# EAGLE library part ANALOGHEADER (library teamFusion)
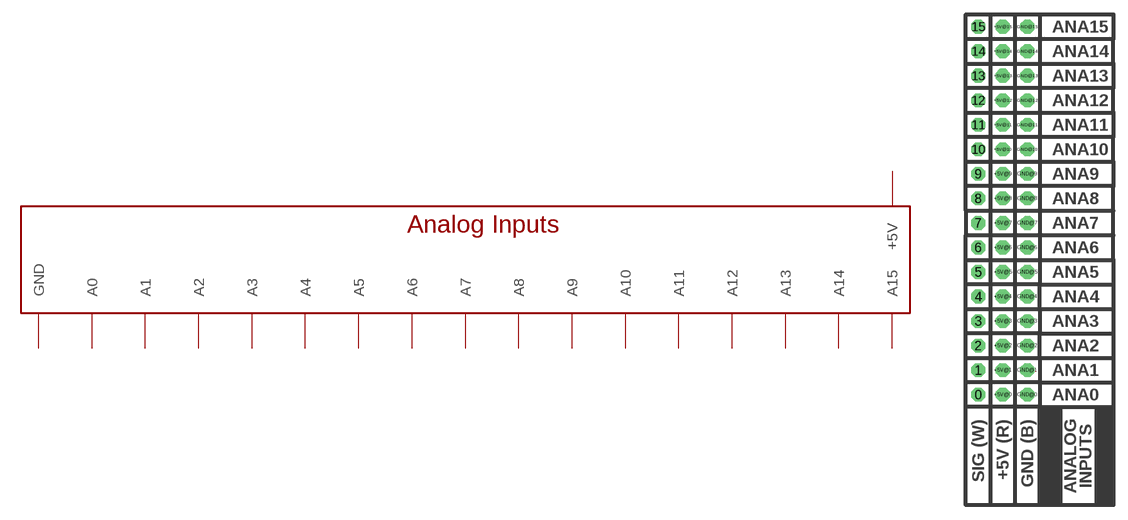
[diagram p1: symbol with the pads of ANALOGHEADER; footprint ANALOGHEADER]

Designator prefix -

## ANALOGHEADER  [ANALOGHEADER]
0  A0
1  A1
2  A2
3  A3
4  A4
5  A5
6  A6
7  A7
8  A8
9  A9
10  A10
11  A11
12  A12
13  A13
14  A14
15  A15
+5V@0  +5V
+5V@1  +5V
+5V@2  +5V
+5V@3  +5V
+5V@4  +5V
+5V@5  +5V
+5V@6  +5V
+5V@7  +5V
+5V@8  +5V
+5V@9  +5V
+5V@10  +5V
+5V@11  +5V
+5V@12  +5V
+5V@13  +5V
+5V@14  +5V
+5V@15  +5V
GND@0  GND
GND@1  GND
GND@2  GND
GND@3  GND
GND@4  GND
GND@5  GND
GND@6  GND
GND@7  GND
GND@8  GND
GND@9  GND
GND@10  GND
GND@11  GND
GND@12  GND
GND@13  GND
GND@14  GND
GND@15  GND

## Footprint ANALOGHEADER (pad centres in mm)
drill 0.914 octagon: 0 1.27,11.43; 1 1.27,13.97; 2 1.27,16.51; 3 1.27,19.05; 4 1.27,21.59; 5 1.27,24.13; 6 1.27,26.67; 7 1.27,29.21; 8 1.27,31.75; 9 1.27,34.29; 10 1.27,36.83; 11 1.27,39.37; 12 1.27,41.91; 13 1.27,44.45; 14 1.27,46.99; 15 1.27,49.53; +5V@0 3.81,11.43; +5V@1 3.81,13.97; +5V@2 3.81,16.51; +5V@3 3.81,19.05; +5V@4 3.81,21.59; +5V@5 3.81,24.13; +5V@6 3.81,26.67; +5V@7 3.81,29.21; +5V@8 3.81,31.75; +5V@9 3.81,34.29; +5V@10 3.81,36.83; +5V@11 3.81,39.37; +5V@12 3.81,41.91; +5V@13 3.81,44.45; +5V@14 3.81,46.99; +5V@15 3.81,49.53; GND@0 6.35,11.43; GND@1 6.35,13.97; GND@2 6.35,16.51; GND@3 6.35,19.05; GND@4 6.35,21.59; GND@5 6.35,24.13; GND@6 6.35,26.67; GND@7 6.35,29.21; GND@8 6.35,31.75; GND@9 6.35,34.29; GND@10 6.35,36.83; GND@11 6.35,39.37; GND@12 6.35,41.91; GND@13 6.35,44.45; GND@14 6.35,46.99; GND@15 6.35,49.53